# Altium integrated library SDR_Module.IntLib: 1 symbol
Pins are listed as number, name and electrical type; pins without a type are passive.

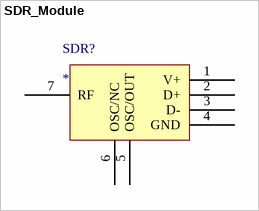
[diagram p0: symbol SDR_Module]

## SDR_Module
designator SDR?
footprint SDR
pins: 1 V+, 2 D+, 3 D-, 4 GND, 5 OSC/OUT, 6 OSC/NC, 7 RF